# EAGLE library part NCN5120MNTWG (library Driver_Transceiver ICs)
IC TRANSCEIVER FULL 1/1 40QFN Manufacturer's datasheet <https://www.onsemi.com/pub/Collateral/NCN5120-D.PDF>
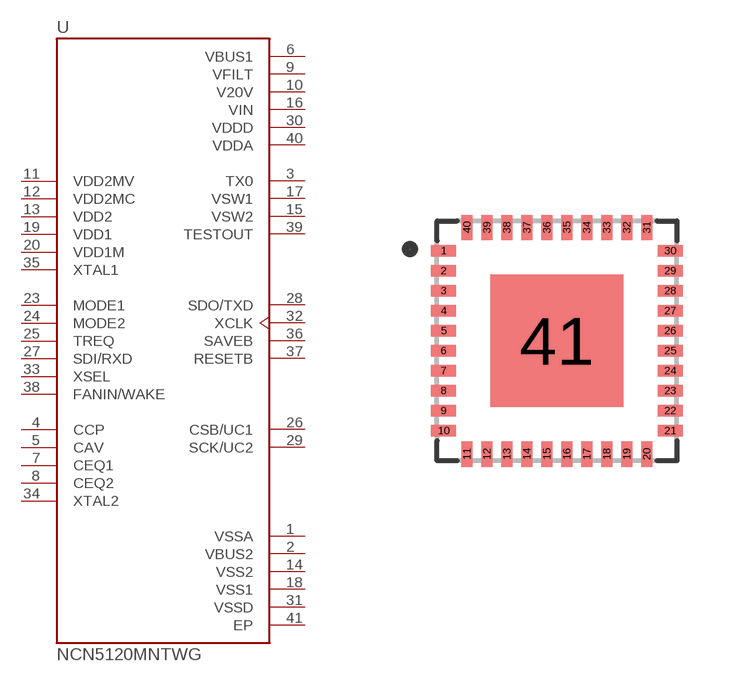
[diagram p0: symbol with the pads of QFN-40; footprint QFN-40]

Designator prefix U

## NCN5120MNTWG (CREATED_BY: PCBLayout.com; DIGIKEY_PN: NCN5120MNTWGOSTR-ND; MANUFACTURER: ON Semiconductor; MPN: NCN5120MNTWG; PACKAGE: QFN-40)  [QFN-40]
1  VSSA  pwr
2  VBUS2  pwr
3  TX0  out
4  CCP
5  CAV
6  VBUS1  pwr
7  CEQ1
8  CEQ2
9  VFILT  pwr
10  V20V  pwr
11  VDD2MV  in
12  VDD2MC  in
13  VDD2  in
14  VSS2  pwr
15  VSW2  out
16  VIN  pwr
17  VSW1  out
18  VSS1  pwr
19  VDD1  in
20  VDD1M  in
23  MODE1  in
24  MODE2  in
25  TREQ  in
26  CSB/UC1
27  SDI/RXD  in
28  SDO/TXD  out
29  SCK/UC2
30  VDDD  pwr
31  VSSD  pwr
32  XCLK  out
33  XSEL  in
34  XTAL2
35  XTAL1  in
36  SAVEB  out
37  RESETB  out
38  FANIN/WAKE  in
39  TESTOUT  out
40  VDDA  pwr
41  EP  pwr

## Footprint QFN-40 (pad centres in mm)
smd 0.63 x 0.28: 1 -2.835,2.25; 2 -2.835,1.75; 3 -2.835,1.25; 4 -2.835,0.75; 5 -2.835,0.25; 6 -2.835,-0.25; 7 -2.835,-0.75; 8 -2.835,-1.25; 9 -2.835,-1.75; 10 -2.835,-2.25; 21 2.835,-2.25; 22 2.835,-1.75; 23 2.835,-1.25; 24 2.835,-0.75; 25 2.835,-0.25; 26 2.835,0.25; 27 2.835,0.75; 28 2.835,1.25; 29 2.835,1.75; 30 2.835,2.25
smd 0.28 x 0.63: 11 -2.25,-2.835; 12 -1.75,-2.835; 13 -1.25,-2.835; 14 -0.75,-2.835; 15 -0.25,-2.835; 16 0.25,-2.835; 17 0.75,-2.835; 18 1.25,-2.835; 19 1.75,-2.835; 20 2.25,-2.835; 31 2.25,2.835; 32 1.75,2.835; 33 1.25,2.835; 34 0.75,2.835; 35 0.25,2.835; 36 -0.25,2.835; 37 -0.75,2.835; 38 -1.25,2.835; 39 -1.75,2.835; 40 -2.25,2.835
smd 3.32 x 3.32: 41 0,0